# Altium footprint library 杂项库.PcbLib: 585 footprints (part 8 of 37)
Each footprint in its own frame and in the unit in brackets; x right, y up, seen from the top. Pads: shape width x height; smd on the part's side, far side on the other; paste and mask are expansions set on the pad; w line width, h text height; cw(c..) or ccw(c..) is an arc to the next point about the centre after c.
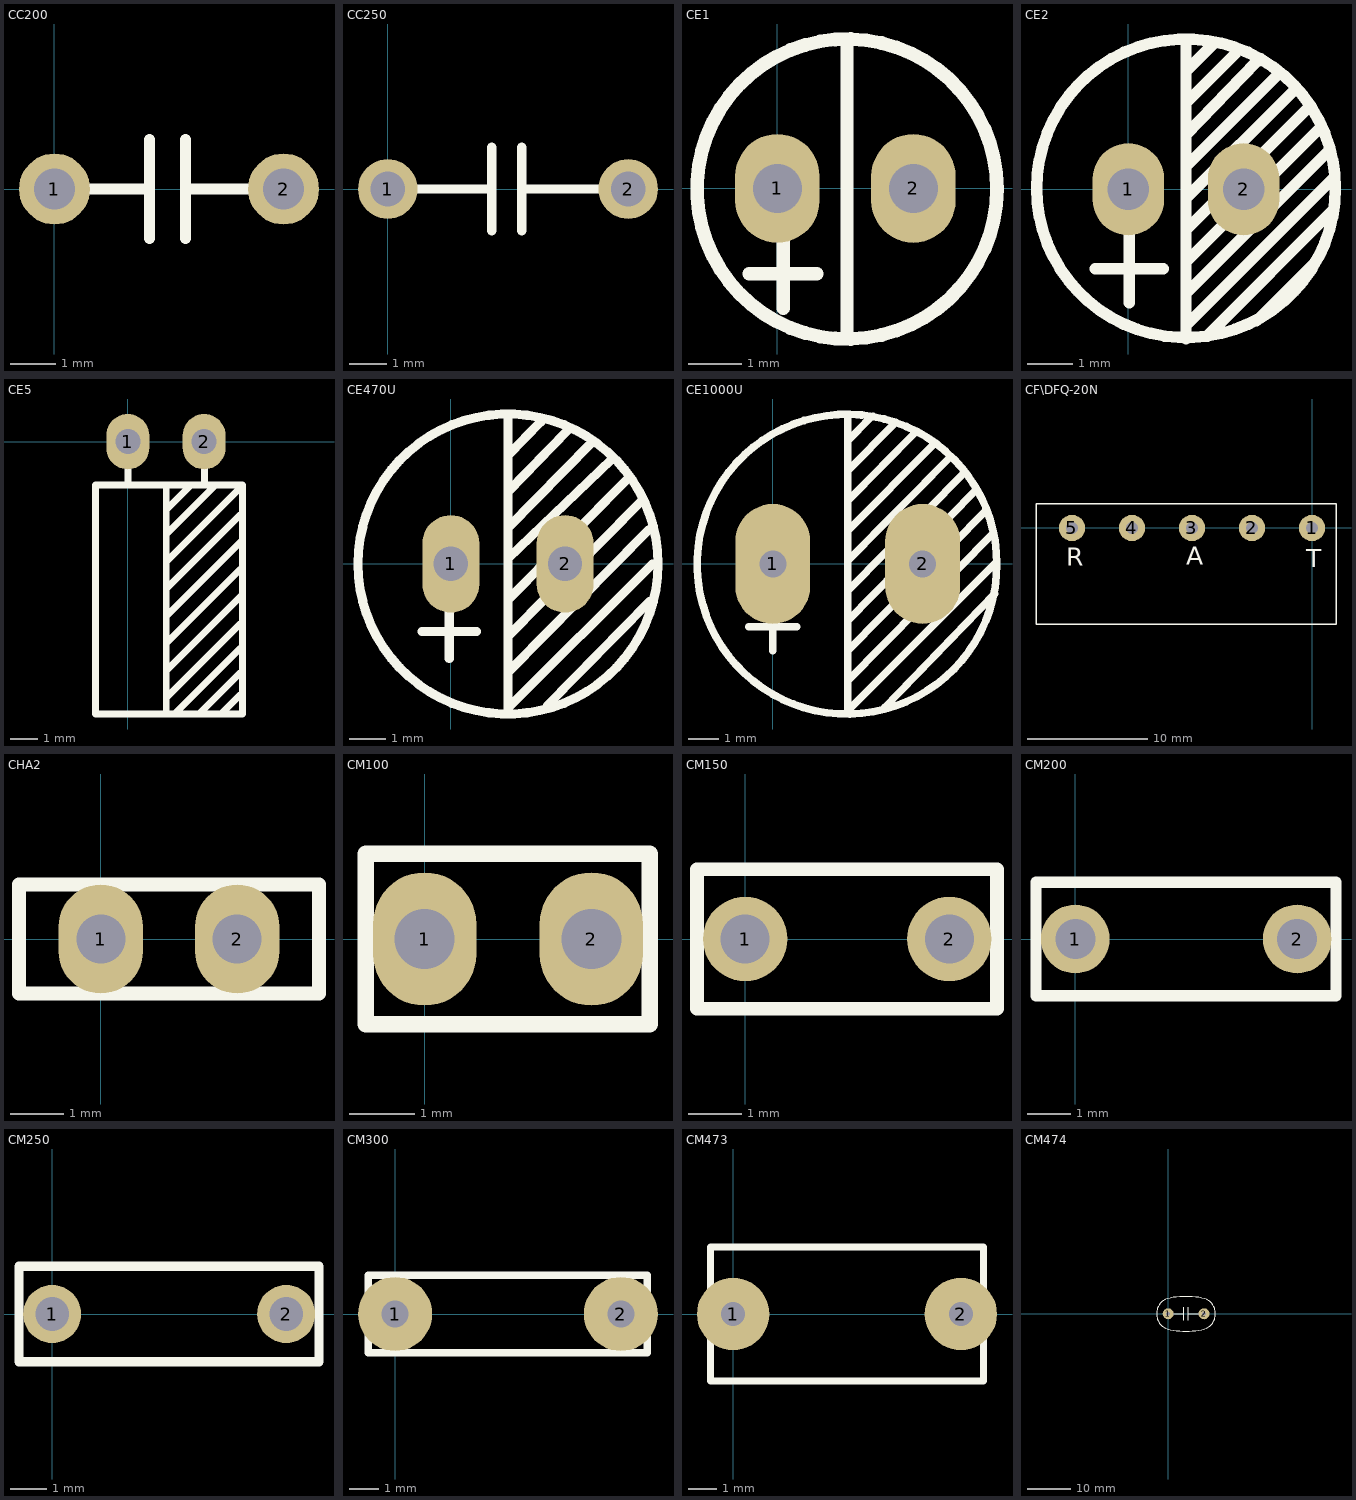
[diagram p7: the footprints below, top view; thin cyan lines are the x and y axes]

## CC200 [mil]
pads (2):
  round 62 hole 36: 1(0,0) 2(200,0)
Top Overlay:
  lines w9.84: 0,0 82.99,0 ; 82.99,-43.31 82.99,43.31 ; 114.49,-43.31 114.49,43.31 ; 114.49,0 200,0

## CC250 [mil]
pads (2):
  round 62 hole 36: 1(0,0) 2(250,0)
Top Overlay:
  lines w9.84: 25,0 107.99,0 ; 107.99,-43.31 107.99,43.31 ; 139.49,-43.31 139.49,43.31 ; 139.49,0 225,0

## CE1 [mil]
pads (2):
  oval 62x80 hole 36: 1(0,0) 2(100,0)
Top Overlay:
  circle w10: c51.18,-0.48 r110.24
  lines w9.84: -20.87,-62.68 29.13,-62.68 ; 4.25,-88.19 4.25,-38.19 ; 51.18,-106.3 51.18,106.3

## CE2 [mil]
pads (2):
  oval 62x80 hole 36: 1(0,0) 2(100,0)
Top Overlay:
  circle w10: c50,0.8 r129.51
  lines w9.84: -28.74,-68.9 30.32,-68.9 ; 0.79,-98.42 0.79,-39.37 ; 50,-129.92 50,129.92 ; 50,-118.11 177.95,9.84 ; 50,-90.55 174.02,33.47 ; 50,-62.99 166.14,53.15 ; 50,-35.43 156.3,70.87 ; 50,-7.87 144.49,86.61 ; 50,19.68 130.71,100.39 ; 50,47.24 111.02,110.24 ; 50,74.8 93.31,118.11 ; 50,102.36 73.62,125.98 ; 69.69,-125.98 177.95,-17.72 ; 111.02,-114.17 162.21,-62.99

## CE5 [mil]
pads (2):
  oval 62x80 hole 36: 1(0,0) 2(110.24,0)
Top Overlay:
  lines w9.84: 0.46,-62.67 0.46,0.32 ; 55.58,-393.38 55.58,-62.67 ; 55.58,-369.76 161.87,-263.46 ; 55.58,-330.39 161.87,-224.09 ; 55.58,-291.02 161.87,-184.72 ; 55.58,-251.65 161.87,-145.35 ; 55.58,-212.28 161.87,-105.98 ; 55.58,-172.91 161.87,-66.61 ; 55.58,-133.53 126.44,-62.67 ; 55.58,-98.1 91.01,-62.67 ; 67.39,-393.38 161.87,-298.89 ; 102.82,-393.38 161.87,-334.32 ; 110.69,-62.67 110.69,0.32 ; 134.31,-393.38 161.87,-365.82 ; -46.79,-393.38 -46.79,-62.67 165.81,-62.67 165.81,-393.38 -46.79,-393.38

## CE470U [mm]
pads (2):
  oval 1.575x2.7 hole 0.95: 1(0,0) 2(3.16,0)
Top Overlay:
  circle w0.254: c1.581,-0.005 r4.15
  lines w0.25: -0.795,-1.875 0.705,-1.875 ; -0.045,-2.625 -0.045,-1.125 ; 1.58,-3 5.49,0.95 ; 1.58,-2 5.24,1.7 ; 1.58,-1 4.87,2.33 ; 1.58,1 3.89,3.35 ; 1.58,2 3.23,3.69 ; 1.58,3 2.49,3.93 ; 1.58,4 1.58,-4 5.58,0 ; 1.581,0.145 4.456,2.895 ; 2.67,-3.92 5.5,-1.04

## CE1000U [mm]
pads (2):
  oval 2.5x4 hole 0.9: 1(0,0) 2(5,0)
Top Overlay:
  circle w0.254: c2.477,-0.009 r5
  lines w0.25: -0.8,-2.1 0.8,-2.1 ; 0,-2.9 0,-1.3 ; 2.5,-5 2.5,5 ; 2.5,-4.9 7.4,0 ; 2.5,-3.9 7.34,1 ; 2.5,-2.9 7.11,1.77 ; 2.5,-1.9 6.76,2.44 ; 2.5,-0.9 6.39,3.04 ; 2.5,0.1 5.91,3.55 ; 2.5,1.1 5.38,4.01 ; 2.5,2.1 4.77,4.4 ; 2.5,3.1 4.05,4.67 ; 2.5,4.1 3.26,4.88 ; 3.74,-4.79 7.4,-1

## CF\DFQ-20N [mm]
pads (5):
  round 2.2 hole 1: 1(0,0) 2(-5,0) 3(-10,0) 4(-15,0) 5(-20,0)
Top Overlay:
  lines w0.12: -23,-8 -23,2 2,2 2,-8 -23,-8
  text "R" at -20.466,-3.142 h1.52
  text "A" at -10.491,-3.042 h1.52
  text "T" at -0.491,-3.267 h1.52

## CHA2 [mil]
pads (2):
  oval 62x80 hole 36: 1(0,0) 2(100,0)
Top Overlay:
  lines w10: -60,-40 -60,40 160,40 160,-40 -60,-40

## CM100 [mil]
pads (2):
  oval 62x80 hole 36: 1(0,0) 2(100,0)
Top Overlay:
  lines w10: -35.43,-51.18 135.04,-51.18 135.04,51.18 -35.43,51.18 -35.43,-51.18

## CM150 [mil]
pads (2):
  round 62 hole 36: 1(0,0) 2(150,0)
Top Overlay:
  lines w10: -35.43,-51.18 -35.43,51.18 185.04,51.18 185.04,-51.18 -35.43,-51.18

## CM200 [mil]
pads (2):
  round 62 hole 36: 1(0,0) 2(200,0)
Top Overlay:
  lines w10: -35.43,-51.18 235.04,-51.18 235.04,51.18 -35.43,51.18 -35.43,-51.18

## CM250 [mil]
pads (2):
  round 62 hole 36: 1(0,0) 2(250,0)
Top Overlay:
  lines w10: -35.43,-51.18 -35.43,51.18 285.04,51.18 285.04,-51.18 -35.43,-51.18

## CM300 [mm]
pads (2):
  round 2.5 hole 0.9: 1(0,0) 2(7.62,0)
Top Overlay:
  lines w0.254: -0.9,-1.3 8.51,-1.3 8.51,1.3 -0.9,1.3 -0.9,-1.3

## CM473 [mm]
pads (2):
  round 2.54 hole 0.85: 1(0,0) 2(8,0)
Top Overlay:
  lines w0.254: -0.8,-2.35 -0.8,2.35 8.8,2.35 8.8,-2.35 -0.8,-2.35

## CM474 [mm]
pads (2):
  round 2.54 hole 0.9: 1(0,0) 2(8.3,0)
Top Overlay:
  lines w0.25: 1.15,0 3.65,0 ; 3.65,-1.5 3.65,1.5 ; 4.65,-1.5 4.65,1.5 ; 4.65,0 7.15,0
  lines w0.254: -0.25,-3.5 ccw(c4.125,15.34) 8.5,-3.5 ccw(c7.226,0) 8.5,3.5 ccw(c4.125,-15.39) -0.25,3.5 ccw(c1.024,0) -0.25,-3.5